# EAGLE library part FT221X (library Strutz Electronic Industries)
FTDI USB-to-SPI Bridge Operates as slave
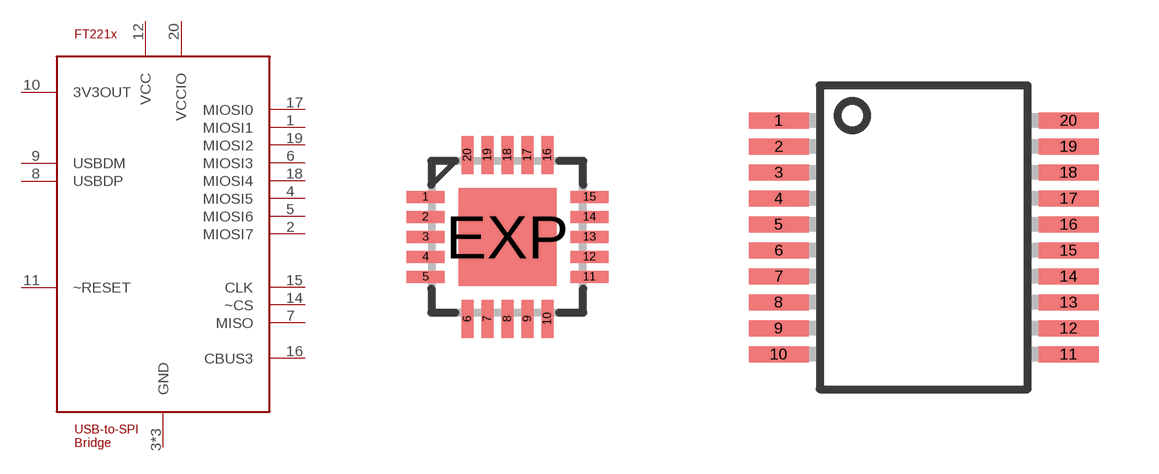
[diagram p34: symbol with the pads of 20-QFN(4X4); footprints 20-QFN(4X4), 20-SSOP]

Designator prefix -

## FT221XQFN  [20-QFN(4X4)]
1  MIOSI1
2  MIOSI7
3  GND
4  MIOSI5
5  MIOSI6
6  MIOSI3
7  MISO
8  USBDP
9  USBDM
10  3V3OUT
11  ~RESET
12  VCC
13  GND
14  ~CS
15  CLK
16  CBUS3
17  MIOSI0
18  MIOSI4
19  MIOSI2
20  VCCIO
EXP  GND

## FT221XTSSOP  [20-SSOP]
1  MIOSI4
2  MIOSI2
3  VCCIO
4  MIOSI1
5  MIOSI7
6  GND
7  MIOSI5
8  MIOSI6
9  MIOSI3
10  MISO
11  USBDP
12  USBDM
13  3V3OUT
14  ~RESET
15  VCC
16  GND
17  ~CS
18  CLK
19  CBUS3
20  MIOSI0

## Footprint 20-QFN(4X4) (pad centres in mm)
smd 0.95 x 0.3: 1 -2.05,1; 2 -2.05,0.5; 3 -2.05,0; 4 -2.05,-0.5; 5 -2.05,-1; 11 2.05,-1; 12 2.05,-0.5; 13 2.05,0; 14 2.05,0.5; 15 2.05,1
smd 0.3 x 0.95: 6 -1,-2.05; 7 -0.5,-2.05; 8 0,-2.05; 9 0.5,-2.05; 10 1,-2.05; 16 1,2.05; 17 0.5,2.05; 18 0,2.05; 19 -0.5,2.05; 20 -1,2.05
smd 2.45 x 2.45: EXP 0,0

## Footprint 20-SSOP (pad centres in mm)
smd 1.5 x 0.4: 1 -3.625,2.925; 2 -3.625,2.275; 3 -3.625,1.625; 4 -3.625,0.975; 5 -3.625,0.325; 6 -3.625,-0.325; 7 -3.625,-0.975; 8 -3.625,-1.625; 9 -3.625,-2.275; 10 -3.625,-2.925; 11 3.625,-2.925; 12 3.625,-2.275; 13 3.625,-1.625; 14 3.625,-0.975; 15 3.625,-0.325; 16 3.625,0.325; 17 3.625,0.975; 18 3.625,1.625; 19 3.625,2.275; 20 3.625,2.925